# Altium schematic symbol library 综合元件.SCHLIB: 53 symbols
Pins are listed as number, name and electrical type; pins without a type are passive.

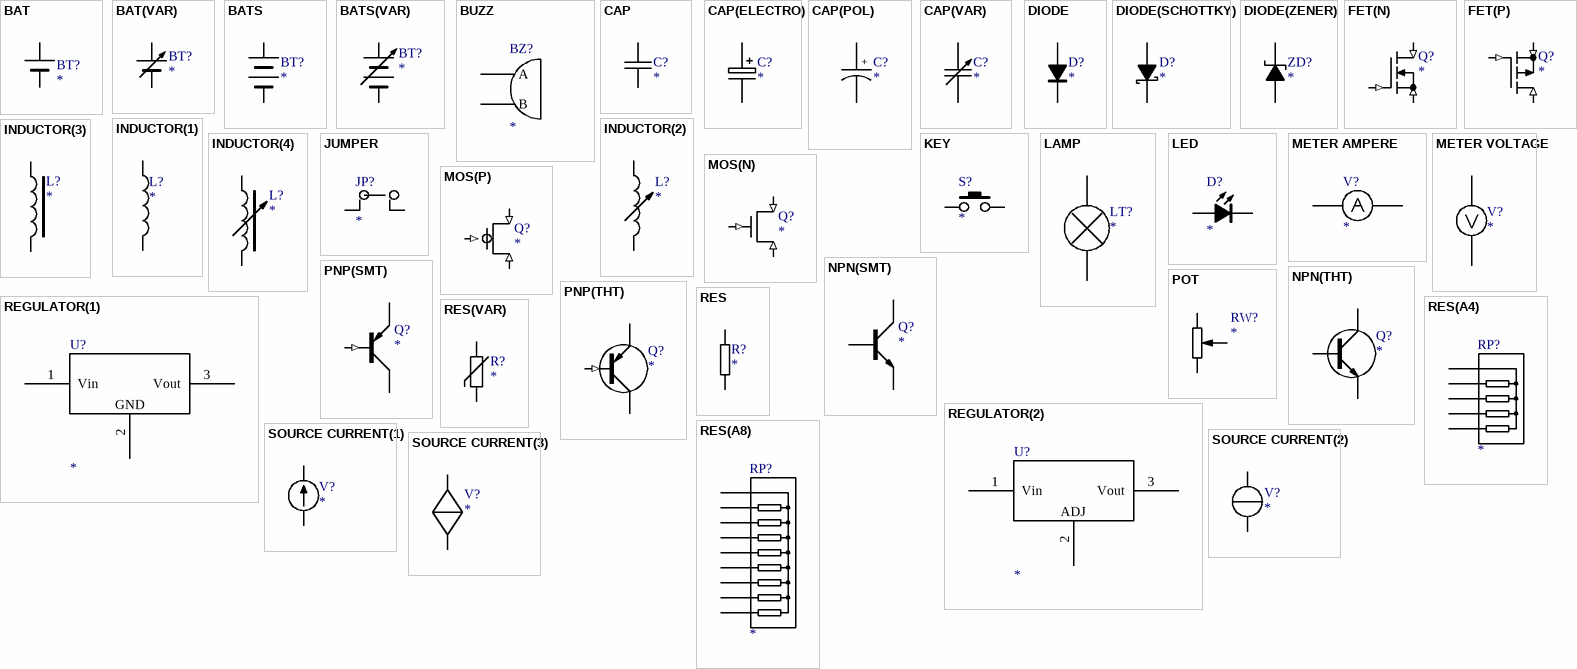
[diagram p0: symbols BAT to SOURCE CURRENT(3)]

## BAT
designator BT?
Battery
pins: 1 +, 2 -

## BAT(VAR)
designator BT?
Battery
pins: 1 +, 2 -

## BATS
designator BT?
Battery
pins: 1 +, 2 -

## BATS(VAR)
designator BT?
Battery
pins: 1 +, 2 -

## BUZZ
designator BZ?
Buzzer
footprint BUZZ(Ф12,6.6)
footprint BUZZ(Ф12,7.62)
pins: 1 A, 2 B

## CAP
designator C?
Capacitor
footprint CAP-0.1
footprint CAP-0.2
footprint 0805C
footprint 1206C
pins: 1, 2

## CAP(ELECTRO)
designator C?
Electrolytic Capacitor
footprint CAP(2.5,Ф6.3)
footprint CAP(3.5,Ф8)
footprint CAP(5.0,Ф10)
pins: 1, 2

## CAP(POL)
designator C?
Polar Capacitor
footprint CAP-B
footprint CAP-C
footprint CAP-A
footprint CAP-D
pins: 1, 2
text: +

## CAP(VAR)
designator C?
Variable Capacitor
pins: 1, 2

## DIODE
designator D?
Diode
footprint DO-35
footprint DO-41
footprint LL-34
footprint DO-214AC
pins: 1 A, 2 K

## DIODE(SCHOTTKY)
designator D?
Diode Schottky
footprint DO-41
footprint DO-214AC
pins: 1 A, 2 K

## DIODE(ZENER)
designator ZD?
Zener Diode
footprint LL-34
footprint DO-35
pins: 1 A, 2 K

## FET(N)
designator Q?
pins: 1 G (in), 2 D (in), 3 S (in)

## FET(P)
designator Q?
pins: 1 G (in), 2 D (in), 3 S (in)

## INDUCTOR(1)
designator L?
Inductor
pins: 1, 2

## INDUCTOR(2)
designator L?
pins: 1, 2

## INDUCTOR(3)
designator L?
pins: 1, 2

## INDUCTOR(4)
designator L?
pins: 1, 2

## JUMPER
designator JP?
Jumper
footprint SIP-2(2.54)
pins: 1, 2

## KEY
designator S?
footprint KEY(6X6,THT)
pins: 1, 2

## LAMP
designator LT?
pins: 1, 2

## LED
designator D?
Light-Emitting Diode
footprint LED(Φ3)
footprint LED(Φ5)
footprint LED(2X5)
pins: 1 A, 2 K

## METER AMPERE
designator V?
pins: 1, 2

## METER VOLTAGE
designator V?
pins: 1, 2

## MOS(N)
designator Q?
pins: 1 G (in), 2 D (in), 3 S (in)

## MOS(P)
designator Q?
pins: 1 G (in), 2 S (in), 3 D (in)

## NPN(SMT)
designator Q?
NPN Transistor
footprint SOT-23
pins: 1 B, 2 E, 3 C

## NPN(THT)
designator Q?
NPN Transistor
footprint TO-92(2.54)
footprint TO-92
pins: 1 E, 2 B, 3 C

## PNP(SMT)
designator Q?
PNP Transistor
footprint SOT-23
pins: 1 B (in), 2 E, 3 C

## PNP(THT)
designator Q?
PNP Transistor
footprint TO-92(2.54)
footprint TO-92
pins: 1 E, 2 B (in), 3 C

## POT
designator RW?
Potentiometer
footprint RW-3296W
footprint RW-3362P
footprint RW-W.L/Φ17
footprint RW-W.L/Φ17(B)
pins: 1, 2 W, 3

## REGULATOR(1)
designator U?
footprint TO-220
footprint TO-220(A)
footprint TO-220(B)
pins: 1 Vin, 2 GND, 3 Vout

## REGULATOR(2)
designator U?
footprint TO-220
footprint TO-220(A)
footprint TO-220(B)
pins: 1 Vin, 2 ADJ, 3 Vout

## RES
designator R?
Resistor
footprint 0805R
footprint 1206R
footprint RES-0.4
footprint RES-0.6
footprint RES-0.3
pins: 1, 2

## RES(A4)
designator RP?
footprint SIP-5
pins: 1 COM, 2 R1, 3 R2, 4 R3, 5 R4

## RES(A8)
designator RP?
footprint SIP-9
pins: 1 COM, 2 R1, 3 R2, 4 R3, 5 R4, 6 R5, 7 R6, 8 R7, 9 R8

## RES(VAR)
designator R?
pins: 1, 2

## SOURCE CURRENT(1)
designator V?
pins: 1, 2

## SOURCE CURRENT(2)
designator V?
pins: 1, 2

## SOURCE CURRENT(3)
designator V?
pins: 1, 2

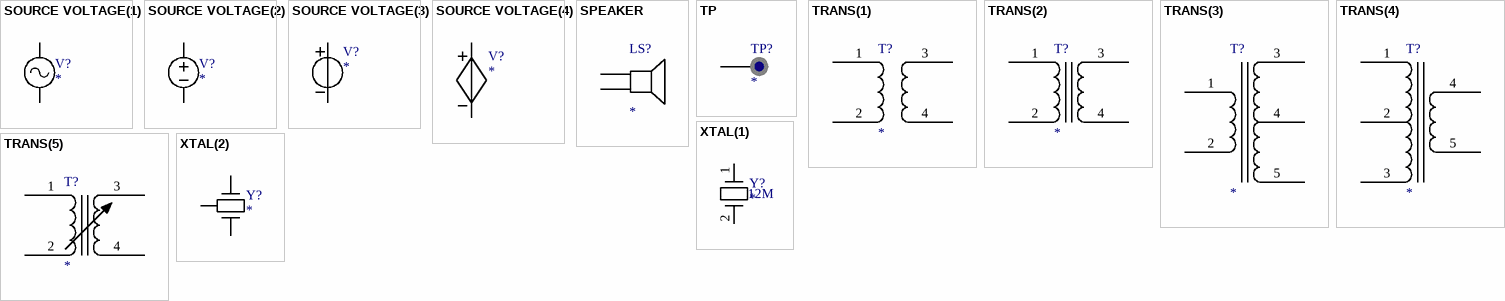
[diagram p1: symbols SOURCE VOLTAGE(1) to XTAL(2)]

## SOURCE VOLTAGE(1)
designator V?
pins: 1, 2

## SOURCE VOLTAGE(2)
designator V?
pins: 1, 2

## SOURCE VOLTAGE(3)
designator V?
pins: 1, 2

## SOURCE VOLTAGE(4)
designator V?
pins: 1, 2

## SPEAKER
designator LS?
footprint SPK(2.54)
pins: 1, 2

## TP
designator TP?
Test Pad
footprint TP
pins: 1 TP

## TRANS(1)
designator T?
pins: 1, 2, 3, 4

## TRANS(2)
designator T?
pins: 1, 2, 3, 4

## TRANS(3)
designator T?
pins: 1, 2, 3, 4, 5

## TRANS(4)
designator T?
pins: 1, 2, 3, 4, 5

## TRANS(5)
designator T?
pins: 1, 2, 3, 4

## XTAL(1)
designator Y?
Crystal
footprint XTAL(HC-49)
pins: 1, 2
text: 12M

## XTAL(2)
designator Y?
Crystal
footprint XTAL(Φ2×6)
pins: 1, 2, 3